# Altium footprint library LTST-C190KGKT.PcbLib: 1 footprints
Each footprint in its own frame and in the unit in brackets; x right, y up, seen from the top. Pads: shape width x height; smd on the part's side, far side on the other; paste and mask are expansions set on the pad; w line width, h text height; cw(c..) or ccw(c..) is an arc to the next point about the centre after c.
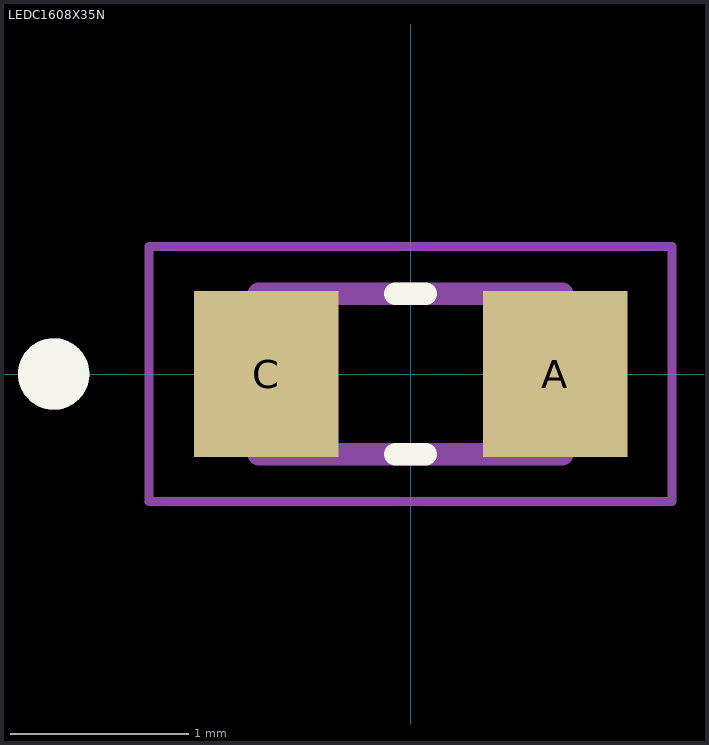
[diagram p0: the footprint, top view; thin cyan lines are the x and y axes]

## LEDC1608X35N [mm]
pads (2):
  rect 0.81x0.93 smd: A(0.81,0) C(-0.81,0)
Top Overlay:
  circle w0.2: c-2,0 r0.1
  lines w0.127: -0.085,-0.45 0.085,-0.45 ; -0.085,0.45 0.085,0.45
Mechanical 13:
  circle w0.2: c-2,0 r0.1
  lines w0.127: -0.85,-0.45 0.85,-0.45 0.85,0.45 -0.85,0.45 -0.85,-0.45
Mechanical 15:
  lines w0.05: -1.465,-0.715 1.465,-0.715 1.465,0.715 -1.465,0.715 -1.465,-0.715
3D body "step_temp.STEP": height 0.8, standoff 0, extent -0.8,-0.4 0.8,0.4